# Altium schematic symbol library CC1206JRNPO9BN150.SchLib: 2 symbols
Pins are listed as number, name and electrical type; pins without a type are passive.

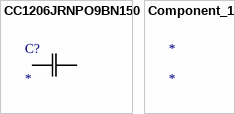
[diagram p0: symbols CC1206JRNPO9BN150 to Component_1]

## CC1206JRNPO9BN150
designator C?
No Description Available; Mfr_Name: Yageo
footprint CAP_CC1206_YAG
pins: 1, 2

## Component_1
designator *